# Altium schematic symbol library MZ7XB_Fun.SCHLIB: 51 symbols
Pins are listed as number, name and electrical type; pins without a type are passive.

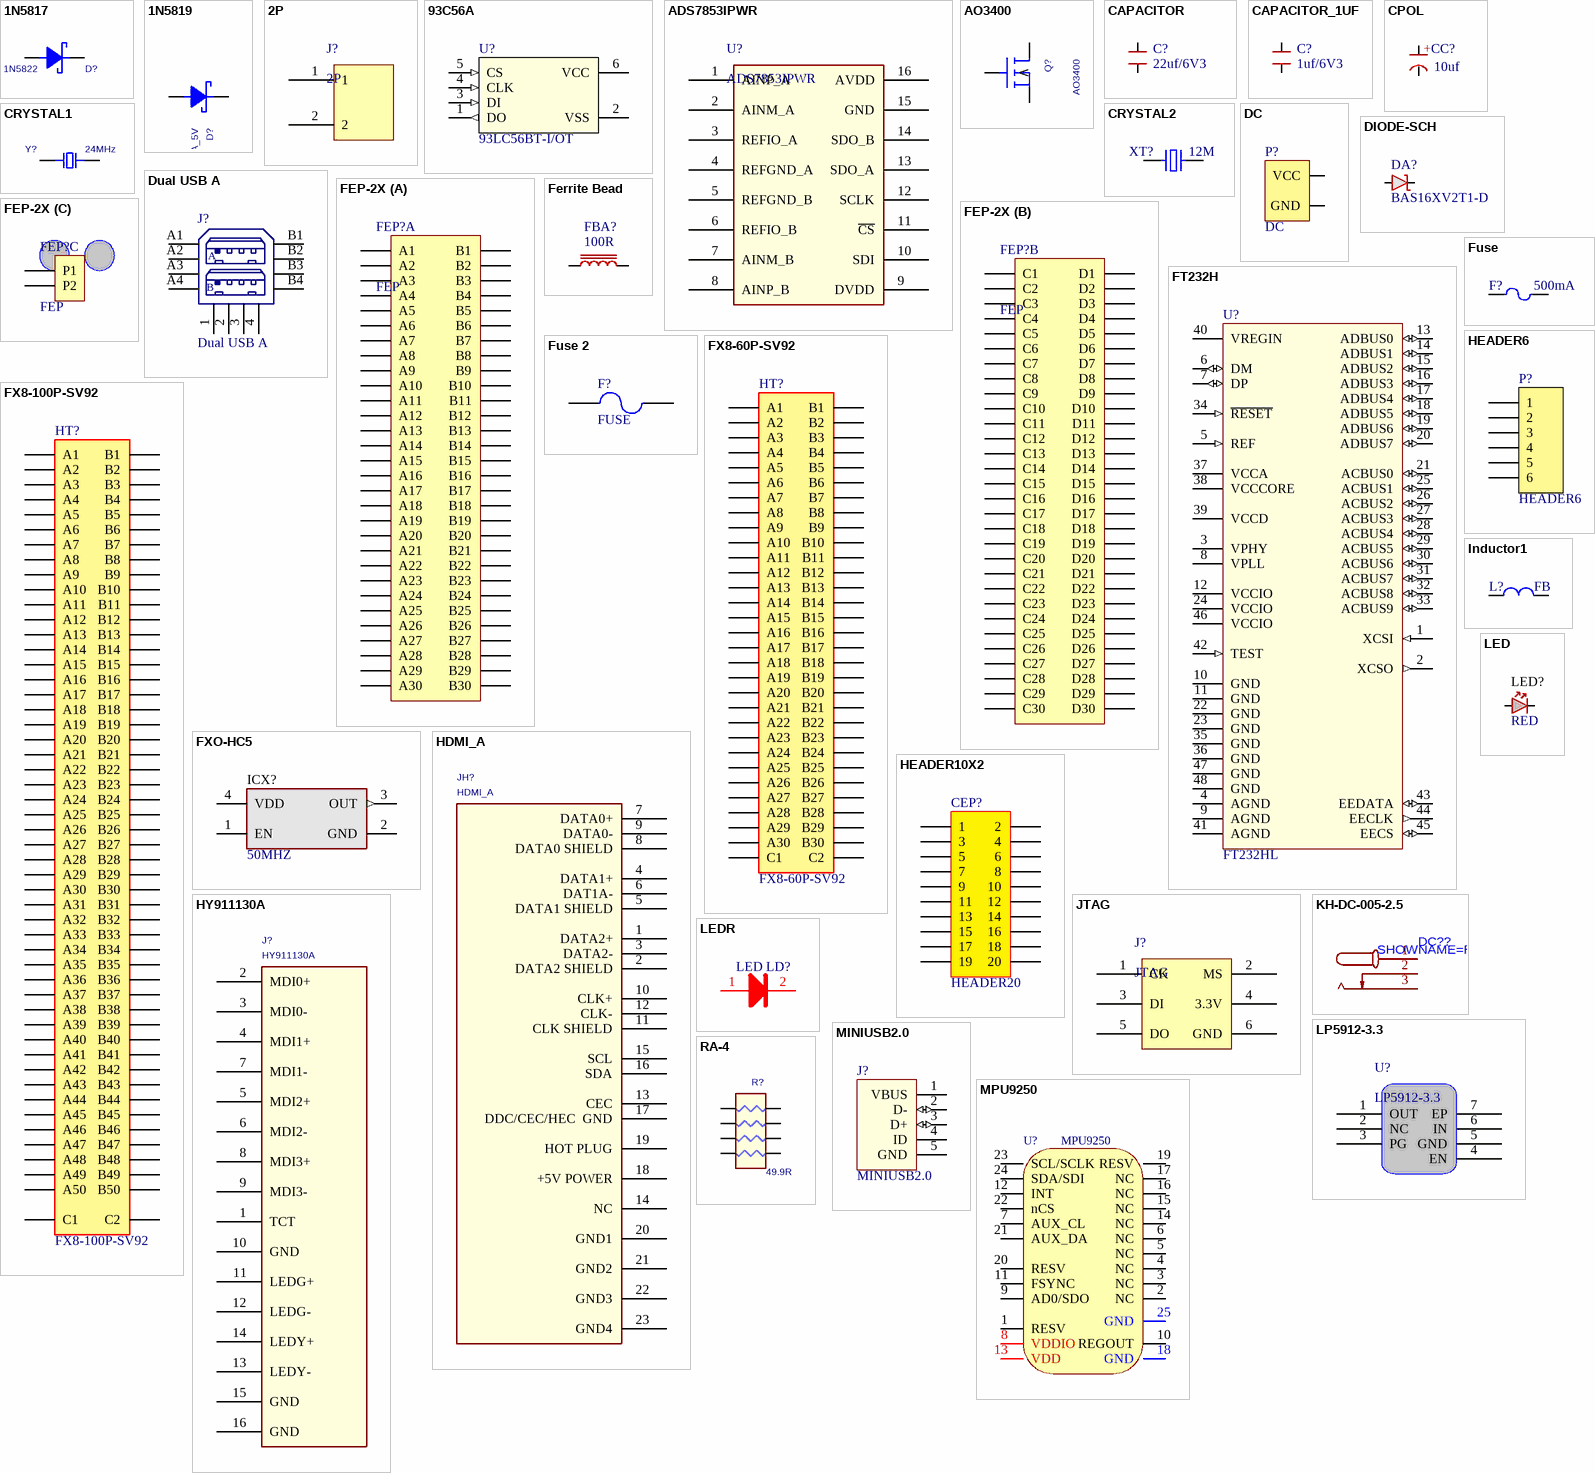
[diagram p0: symbols 1N5817 to RA-4]

## 1N5817
designator D?, comment 1N5822
footprint D1206
footprint SMA_DO_214AC
pins: 1 A, 2 C

## 1N5819
designator D?, comment TVS_SMAJ5.0CA_5V
footprint SMA_DO_214AC
footprint SMA_DO_214AC
pins: 1 A, 2 C

## 2P
designator J?
footprint 2P
pins: 1, 2

## 93C56A
designator U?, comment 93LC56BT-I/OT
Memory; Publisher: 胡浩; Published: 20150101
footprint SOT6-95P
pins: 1 DO (out), 2 VSS (power), 3 DI (in), 4 CLK (in), 5 CS (in), 6 VCC (power)

## ADS7853IPWR
designator U?
footprint TSSOP16-0.65-5X4.4MM
pins: 1 AINP_A, 2 AINM_A, 3 REFIO_A, 4 REFGND_A, 5 REFGND_B, 6 REFIO_B, 7 AINM_B, 8 AINP_B, 9 DVDD, 10 SDI, 11 ~{CS}, 12 SCLK, 13 SDO_A, 14 SDO_B, 15 GND, 16 AVDD

## AO3400
designator Q?
PSpiceTemplate: X^@REFDES %d %g %s @MODEL
footprint SOT23
simulation model AO3400
pins: 1 G, 2 S, 3 D

## CAPACITOR
designator C?, comment 22uf/6V3
Generic Capacitor; Value: 4.7uF; DPN: *; Manufacturer: *
footprint CAP0402 (Chip Capacitor, 2-Leads, Body 1.0x0.5mm, IPC High Density)
footprint CAP0603
footprint CAP0805
footprint CAP1206
pins: 1, 2

## CAPACITOR_1UF
designator C?, comment 1uf/6V3
Generic Capacitor; Value: 4.7uF; DPN: *; Manufacturer: *
footprint CAP0402 (Chip Capacitor, 2-Leads, Body 1.0x0.5mm, IPC High Density)
footprint CAP0603
footprint CAP0805
footprint CAP1206
pins: 1, 2

## CPOL
designator CC?, comment 10uf
Generic Polarized Capacitor; DPN: *; Manufacturer: *
footprint CAP1210 (Chip Capacitor, 2-Leads, Body 3.2x2.5mm, IPC High Density)
footprint CAP0603
footprint CPOL-F93N (F93 Series N Size Tantalum Elecrolytic Capacitor (Nichicon))
footprint CPOL3528 (EIA package size B)
pins: 1, 2
text: +

## CRYSTAL1
designator Y?, comment 24MHz
footprint CRY5032_2
pins: 1, 2

## CRYSTAL2
designator XT?, comment 12M
Crystal; Publisher: 胡浩; Published: 20131115
footprint 3225
footprint 2520
pins: 1, 3

## DC
designator P?
footprint DC2.5
footprint DC5.0
footprint DC031A
pins: 1 VCC, 2 GND

## DIODE-SCH
designator DA?, comment BAS16XV2T1-D
Surface Mount ESD Protection Diode; Manufacturer: On Semiconductor; DPN: *
footprint SOD-323
footprint SMC (SMC (DO-214AB), 2-Leads, Body 7.9x5.9mm, (Vishay))
footprint SMA (SMA, 2-leads, Body 5x3mm)
footprint SOD-523
pins: A, K

## Dual USB A
designator J?
footprint USBAX2
pins: 1, 2, 3, 4, A1, A2, A3, A4, B1, B2, B3, B4
text: A; B

## FEP-2X
designator FEP?, comment FEP
footprint FEP-X2
part A pins: A1, A2, A3, A4, A5, A6, A7, A8, A9, A10, A11, A12, A13, A14, A15, A16, A17, A18, A19, A20, A21, A22, A23, A24, A25, A26, A27, A28, A29, A30, B1, B2, B3, B4, B5, B6, B7, B8, B9, B10, B11, B12, B13, B14, B15, B16, B17, B18, B19, B20, B21, B22, B23, B24, B25, B26, B27, B28, B29, B30
part B pins: C1, C2, C3, C4, C5, C6, C7, C8, C9, C10, C11, C12, C13, C14, C15, C16, C17, C18, C19, C20, C21, C22, C23, C24, C25, C26, C27, C28, C29, C30, D1, D2, D3, D4, D5, D6, D7, D8, D9, D10, D11, D12, D13, D14, D15, D16, D17, D18, D19, D20, D21, D22, D23, D24, D25, D26, D27, D28, D29, D30
part C pins: P1, P2

## Ferrite Bead
designator FBA?, comment 100R
Generic Ferrite Bead; Value: 220; DPN: *; Manufacturer: *
footprint CAP0603
footprint FB0402 (Ferrite Bead, 2-Leads, Body 1.0x0.5mm, IPC High Density)
pins: 1, 2

## FT232H
designator U?, comment FT232HL
USB UART; Publisher: 胡浩; Published: 20141101
footprint QFN48-50P8X8X1 (QFN, 48-Leads, Body 8.0x8.0mm (max), Pitch 0.50mm, IPC Medium Density)
footprint LQFP48-50P7X7X1.6
pins: 1 XCSI (in), 2 XCSO (out), 3 VPHY (power), 4 AGND (power), 5 REF (in), 6 DM (io), 7 DP (io), 8 VPLL (power), 9 AGND (power), 10 GND (power), 11 GND (power), 12 VCCIO (power), 13 ADBUS0 (io), 14 ADBUS1 (io), 15 ADBUS2 (io), 16 ADBUS3 (io), 17 ADBUS4 (io), 18 ADBUS5 (io), 19 ADBUS6 (io), 20 ADBUS7 (io), 21 ACBUS0 (io), 22 GND (power), 23 GND (power), 24 VCCIO (power), 25 ACBUS1 (io), 26 ACBUS2 (io), 27 ACBUS3 (io), 28 ACBUS4 (io), 29 ACBUS5 (io), 30 ACBUS6 (io), 31 ACBUS7 (io), 32 ACBUS8 (io), 33 ACBUS9 (io), 34 ~{RESET} (in), 35 GND (power), 36 GND (power), 37 VCCA (power), 38 VCCCORE (power), 39 VCCD (power), 40 VREGIN (power), 41 AGND (power), 42 TEST (in), 43 EEDATA (io), 44 EECLK (out), 45 EECS (io), 46 VCCIO (power), 47 GND (power), 48 GND (power)

## Fuse
designator F?, comment 500mA
Fuse; Publisher: 胡浩; Published: 20110225; Value: 500mA
footprint 1206
footprint 1812
footprint FUSE
footprint CAP0805
footprint NTC
pins: 1, 2

## Fuse 2
designator F?, comment FUSE
Published: 8-Jun-2000; LatestRevisionDate: 17-Jul-2002; LatestRevisionNote: Re-released for DXP Platform.; PackageReference: PIN-W2/E2.8; Publisher: Altium Limited
footprint 1206
simulation model FUSE (Spice Subcircuit)
pins: 1, 2

## FX8-60P-SV92
designator HT?
footprint FX8-60S-SV92
pins: A1, A2, A3, A4, A5, A6, A7, A8, A9, A10, A11, A12, A13, A14, A15, A16, A17, A18, A19, A20, A21, A22, A23, A24, A25, A26, A27, A28, A29, A30, B1, B2, B3, B4, B5, B6, B7, B8, B9, B10, B11, B12, B13, B14, B15, B16, B17, B18, B19, B20, B21, B22, B23, B24, B25, B26, B27, B28, B29, B30, C1, C2

## FX8-100P-SV92
designator HT?
footprint FX8-100S-SV92
pins: A1, A2, A3, A4, A5, A6, A7, A8, A9, A10, A11, A12, A13, A14, A15, A16, A17, A18, A19, A20, A21, A22, A23, A24, A25, A26, A27, A28, A29, A30, A31, A32, A33, A34, A35, A36, A37, A38, A39, A40, A41, A42, A43, A44, A45, A46, A47, A48, A49, A50, B1, B2, B3, B4, B5, B6, B7, B8, B9, B10, B11, B12, B13, B14, B15, B16, B17, B18, B19, B20, B21, B22, B23, B24, B25, B26, B27, B28, B29, B30, B31, B32, B33, B34, B35, B36, B37, B38, B39, B40, B41, B42, B43, B44, B45, B46, B47, B48, B49, B50, C1, C2

## FXO-HC5
designator ICX?, comment 50MHZ
3.3V HCMOS Oscillator; Manufacturer: Fox Electronics; Value: 33.33MHz; DPN: *
footprint 3225 (Footprint not found)
pins: 1 EN, 2 GND (power), 3 OUT (out), 4 VDD (power)

## HDMI_A
designator JH?
footprint HDMI_1903015
footprint HDMI_SMD_A
pins: 1 DATA2+, 2 DATA2 SHIELD, 3 DATA2-, 4 DATA1+, 5 DATA1 SHIELD, 6 DAT1A-, 7 DATA0+, 8 DATA0 SHIELD, 9 DATA0-, 10 CLK+, 11 CLK SHIELD, 12 CLK-, 13 CEC, 14 NC, 15 SCL, 16 SDA, 17 DDC/CEC/HEC  GND, 18 +5V POWER, 19 HOT PLUG, 20 GND1, 21 GND2, 22 GND3, 23 GND4

## HEADER6
designator P?
footprint HEADER1X6
pins: 1, 2, 3, 4, 5, 6

## HEADER10X2
designator CEP?, comment HEADER20
footprint HEADER10X2X2.5
footprint HERADER2X10X000X
pins: 1, 2, 3, 4, 5, 6, 7, 8, 9, 10, 11, 12, 13, 14, 15, 16, 17, 18, 19, 20

## HY911130A
designator J?
footprint HY911130A
pins: 1 TCT, 2 MDI0+, 3 MDI0-, 4 MDI1+, 5 MDI2+, 6 MDI2-, 7 MDI1-, 8 MDI3+, 9 MDI3-, 10 GND (power), 11 LEDG+, 12 LEDG-, 13 LEDY-, 14 LEDY+, 15 GND (power), 16 GND (power)

## Inductor1
designator L?, comment value FB  (hidden comment: FB100r)
Inductance; Publisher: 胡浩; Published: 20100927
footprint 1206
footprint PIN-2H
footprint L5
footprint 0805
footprint 电感
footprint L6
footprint 7x7
footprint 10x10
footprint 12x12
footprint 0402
footprint CAP0603
footprint 5X5X2
footprint 4X4X2
footprint 1008
pins: 1, 2

## JTAG
designator J?
footprint 2*3P
pins: 1 CK, 2 MS, 3 DI, 4 3.3V, 5 DO, 6 GND

## KH-DC-005-2.5
designator DC??, comment SHOWNAME=F
footprint DC-IN-TH_KH-DC-005-2.5
pins: 1, 2, 3

## LED
designator LED?  value RED  (hidden comment: LED)
Generic LED; Manufacturer: *; DPN: *
footprint D0603
pins: A, K

## LEDR
designator LD?, comment LED
footprint 0603D
footprint LED-M
pins: 1, 2

## LP5912-3.3
designator U?
footprint WSON-6_L2.0-W2.0-P0.65-TL-EP
pins: 1 OUT, 2 NC, 3 PG, 4 EN, 5 GND, 6 IN, 7 EP

## MINIUSB2.0
designator J?
Publisher: 胡浩; Published: 20121029
footprint MINI_USB2.0
pins: 1 VBUS (power), 2 D- (io), 3 D+ (io), 4 ID, 5 GND (power)

## MPU9250
designator U?
footprint MPU9250
pins: 1 RESV, 2 NC, 3 NC, 4 NC, 5 NC, 6 NC, 7 AUX_CL, 8 VDDIO, 9 AD0/SDO, 10 REGOUT, 11 FSYNC, 12 INT, 13 VDD, 14 NC, 15 NC, 16 NC, 17 NC, 18 GND, 19 RESV, 20 RESV, 21 AUX_DA, 22 nCS, 23 SCL/SCLK, 24 SDA/SDI, 25 GND

## RA-4
designator R?, comment 49.9R
footprint RA4_0402
footprint RA4_0603
pins: 1, 2, 3, 4, 5, 6, 7, 8

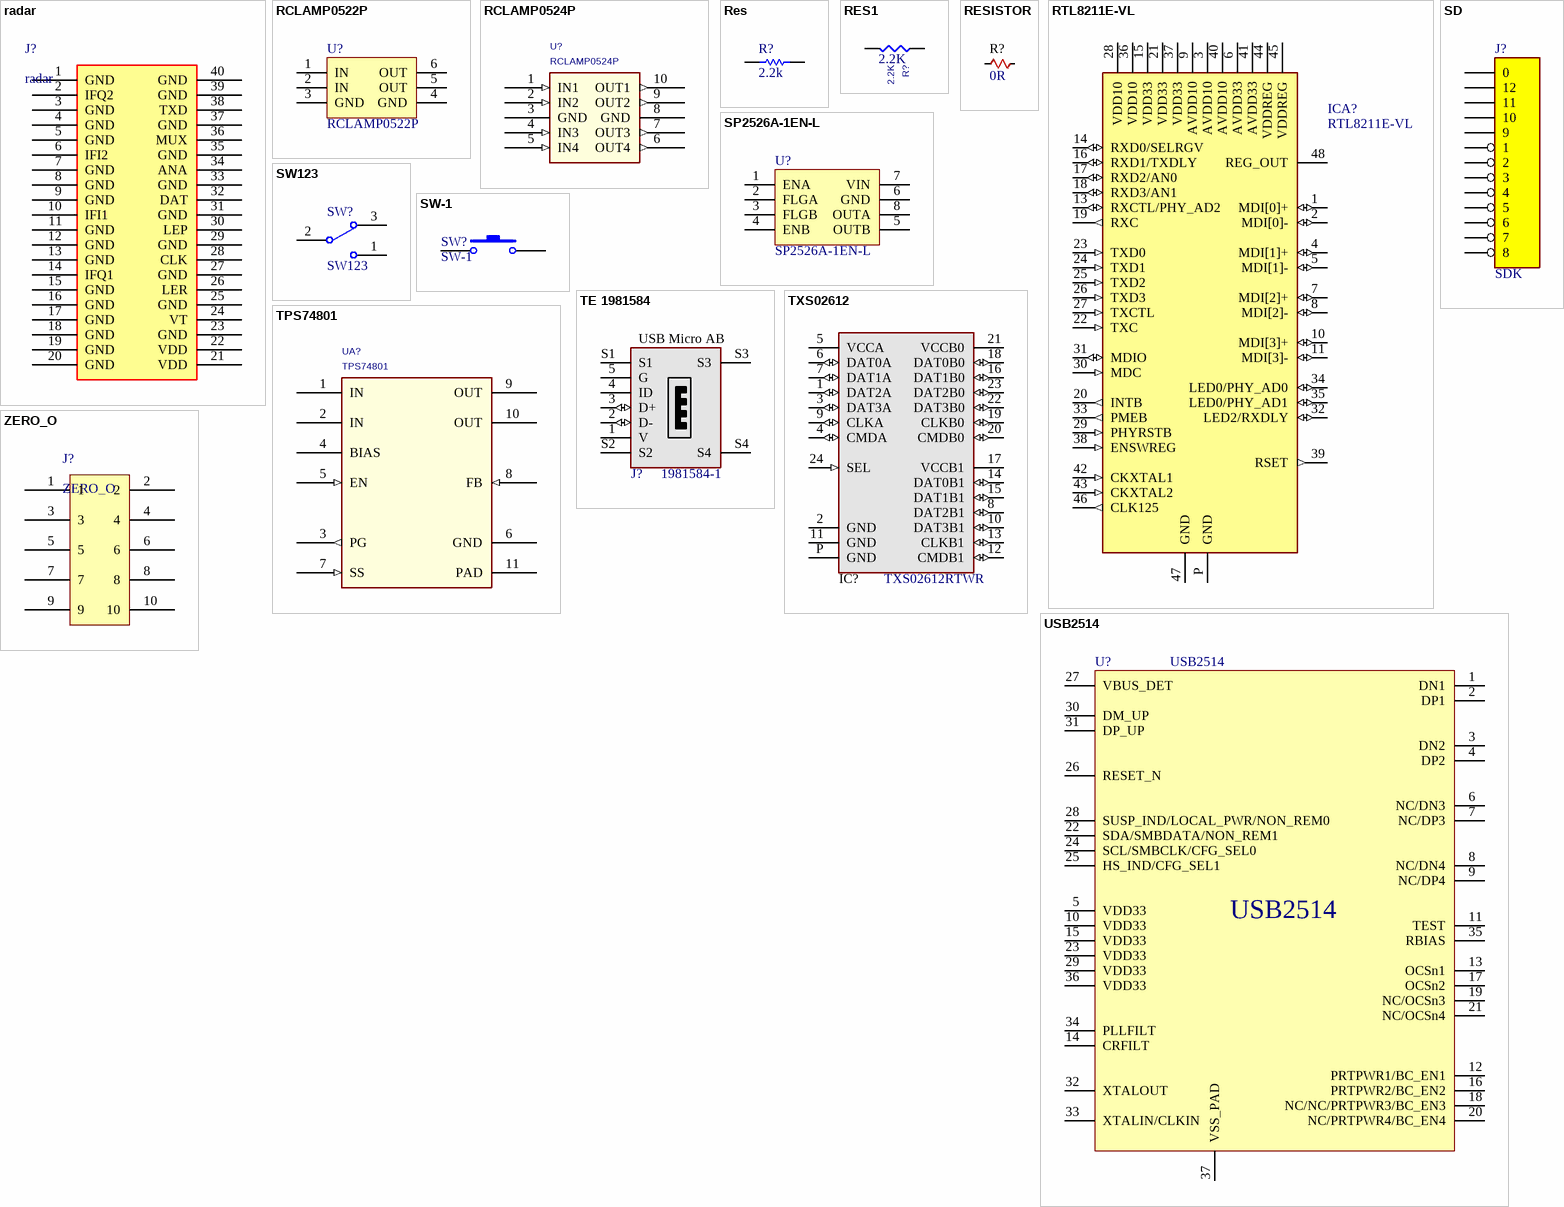
[diagram p1: symbols radar to ZERO_O]

## radar
designator J?
footprint BTB_40P_0.8_G
pins: 1 GND, 2 IFQ2, 3 GND, 4 GND, 5 GND, 6 IFI2, 7 GND, 8 GND, 9 GND, 10 IFI1, 11 GND, 12 GND, 13 GND, 14 IFQ1, 15 GND, 16 GND, 17 GND, 18 GND, 19 GND, 20 GND, 21 VDD, 22 VDD, 23 GND, 24 VT, 25 GND, 26 LER, 27 GND, 28 CLK, 29 GND, 30 LEP, 31 GND, 32 DAT, 33 GND, 34 ANA, 35 GND, 36 MUX, 37 GND, 38 TXD, 39 GND, 40 GND

## RCLAMP0522P
designator U?
footprint SLP1610P4_6
pins: 1 IN, 2 IN, 3 GND, 4 GND, 5 OUT, 6 OUT

## RCLAMP0524P
designator U?
footprint SLP2510P8_10
pins: 1 IN1 (in), 2 IN2 (in), 3 GND (power), 4 IN3 (in), 5 IN4 (in), 6 OUT4 (out), 7 OUT3 (out), 8 GND (power), 9 OUT2 (out), 10 OUT1 (out)

## Res
designator R?, comment 2.2k
1K
footprint RES0402
footprint 0603
footprint 0805
footprint 1206R
footprint R0603
pins: 1, 2

## RES1
designator R?, comment 2.2K
DIST: FLAT; PSpiceTemplate: R^@REFDES %1 %2 ?TOLERANCE|R^@REFDES| @VALUE TC=@TC1,@TC2 ?TOLERANCE|\n.model R^@REFDES RES R=1 DEV=@TOLERANCE% TC1=@TC1 TC2=@TC2|; VOLTAGE: RVMAX; SLOPE: RSMAX; MAX_TEMP: RTMAX; POWER: RMAX; TC1: 0; TC2: 0; Value: 2.2K
footprint R0402
simulation model RES1
footprint RES0402
footprint R0603
pins: 1, 2

## RESISTOR
designator R?, comment 0R
Generic Resistor; Value: 390; Manufacturer: *; DPN: *
footprint RES0402
footprint RES0805 (Resistor, 2-Leads, Body 2.0x1.3mm, IPC High Density)
footprint R0603
pins: 1, 2

## RTL8211E-VL
designator ICA?
footprint QFN48MIN
footprint QFN48
pins: 1 MDI[0]+ (io), 2 MDI[0]- (io), 3 AVDD10 (power), 4 MDI[1]+ (io), 5 MDI[1]- (io), 6 AVDD33 (power), 7 MDI[2]+ (io), 8 MDI[2]- (io), 9 AVDD10 (power), 10 MDI[3]+ (io), 11 MDI[3]- (io), 13 RXCTL/PHY_AD2 (io), 14 RXD0/SELRGV (io), 15 VDD33 (power), 16 RXD1/TXDLY (io), 17 RXD2/AN0 (io), 18 RXD3/AN1 (io), 19 RXC (out), 20 INTB (out), 21 VDD33 (power), 22 TXC (in), 23 TXD0 (in), 24 TXD1 (in), 25 TXD2 (in), 26 TXD3 (in), 27 TXCTL (in), 28 VDD10 (power), 29 PHYRSTB (in), 30 MDC (in), 31 MDIO (io), 32 LED2/RXDLY (io), 33 PMEB (out), 34 LED0/PHY_AD0 (io), 35 LED0/PHY_AD1 (io), 36 VDD10 (power), 37 VDD33 (power), 38 ENSWREG (in), 39 RSET (out), 40 AVDD10 (power), 41 AVDD33 (power), 42 CKXTAL1 (in), 43 CKXTAL2 (in), 44 VDDREG (power), 45 VDDREG (power), 46 CLK125 (out), 47 GND (power), 48 REG_OUT (power), P GND (power)

## SD
designator J?, comment SDK
footprint SDKA-X
footprint TF_K
pins: 0, 1, 2, 3, 4, 5, 6, 7, 8, 9, 10, 11, 12

## SP2526A-1EN-L
designator U?
footprint SOP8
pins: 1 ENA, 2 FLGA, 3 FLGB, 4 ENB, 5 OUTB, 6 GND, 7 VIN, 8 OUTA

## SW123
designator SW?
footprint SW123 (Footprint not found)
footprint SW1-2-3 -B
pins: 1, 2, 3

## SW-1
designator SW?
SW
footprint SW-3X9
pins: 1, 2

## TE 1981584
designator J?, comment 1981584-1
USB Micro AB connector; Manufacturer: Tyco Electronics; DPN: *
footprint MicroUsb
pins: 1 V (power), 2 D- (io), 3 D+ (io), 4 ID, 5 G (power), S1, S2, S3, S4
text: USB Micro AB

## TPS74801
designator UA?
footprint VQFN10
pins: 1 IN (power), 2 IN (power), 3 PG (out), 4 BIAS (power), 5 EN (in), 6 GND (power), 7 SS (in), 8 FB (in), 9 OUT (power), 10 OUT (power), 11 PAD (power)

## TXS02612
designator IC?, comment TXS02612RTWR
SDIO Port Expander with Voltage-Level Translation; Manufacturer: Texas Instruments; DPN: *
footprint QFN24
pins: 1 DAT2A (io), 2 GND, 3 DAT3A (io), 4 CMDA (io), 5 VCCA (power), 6 DAT0A (io), 7 DAT1A (io), 8 DAT2B1 (io), 9 CLKA (io), 10 DAT3B1 (io), 11 GND, 12 CMDB1 (io), 13 CLKB1 (io), 14 DAT0B1 (io), 15 DAT1B1 (io), 16 DAT1B0 (io), 17 VCCB1 (power), 18 DAT0B0 (io), 19 CLKB0 (io), 20 CMDB0 (io), 21 VCCB0 (power), 22 DAT3B0 (io), 23 DAT2B0 (io), 24 SEL (in), P GND

## USB2514
designator U?
footprint QFN36
pins: 1 DN1 (oc), 2 DP1 (oc), 3 DN2 (oc), 4 DP2 (oc), 5 VDD33 (oc), 6 NC/DN3 (oc), 7 NC/DP3 (oc), 8 NC/DN4 (oc), 9 NC/DP4 (oc), 10 VDD33 (oc), 11 TEST (oc), 12 PRTPWR1/BC_EN1 (oc), 13 OCSn1 (oc), 14 CRFILT (oc), 15 VDD33 (oc), 16 PRTPWR2/BC_EN2 (oc), 17 OCSn2 (oc), 18 NC/NC/PRTPWR3/BC_EN3 (oc), 19 NC/OCSn3 (oc), 20 NC/PRTPWR4/BC_EN4 (oc), 21 NC/OCSn4 (oc), 22 SDA/SMBDATA/NON_REM1 (oc), 23 VDD33 (oc), 24 SCL/SMBCLK/CFG_SEL0 (oc), 25 HS_IND/CFG_SEL1 (oc), 26 RESET_N (oc), 27 VBUS_DET, 28 SUSP_IND/LOCAL_PWR/NON_REM0 (oc), 29 VDD33 (oc), 30 DM_UP, 31 DP_UP, 32 XTALOUT (oc), 33 XTALIN/CLKIN (oc), 34 PLLFILT (oc), 35 RBIAS (oc), 36 VDD33 (oc), 37 VSS_PAD (oc)

## ZERO_O
designator J?
footprint 2*5P
pins: 1, 2, 3, 4, 5, 6, 7, 8, 9, 10